# Altium footprint library Resistors_GP.PcbLib: 194 footprints (part 10 of 13)
Each footprint in its own frame and in the unit in brackets; x right, y up, seen from the top. Pads: shape width x height; smd on the part's side, far side on the other; paste and mask are expansions set on the pad; w line width, h text height; cw(c..) or ccw(c..) is an arc to the next point about the centre after c.
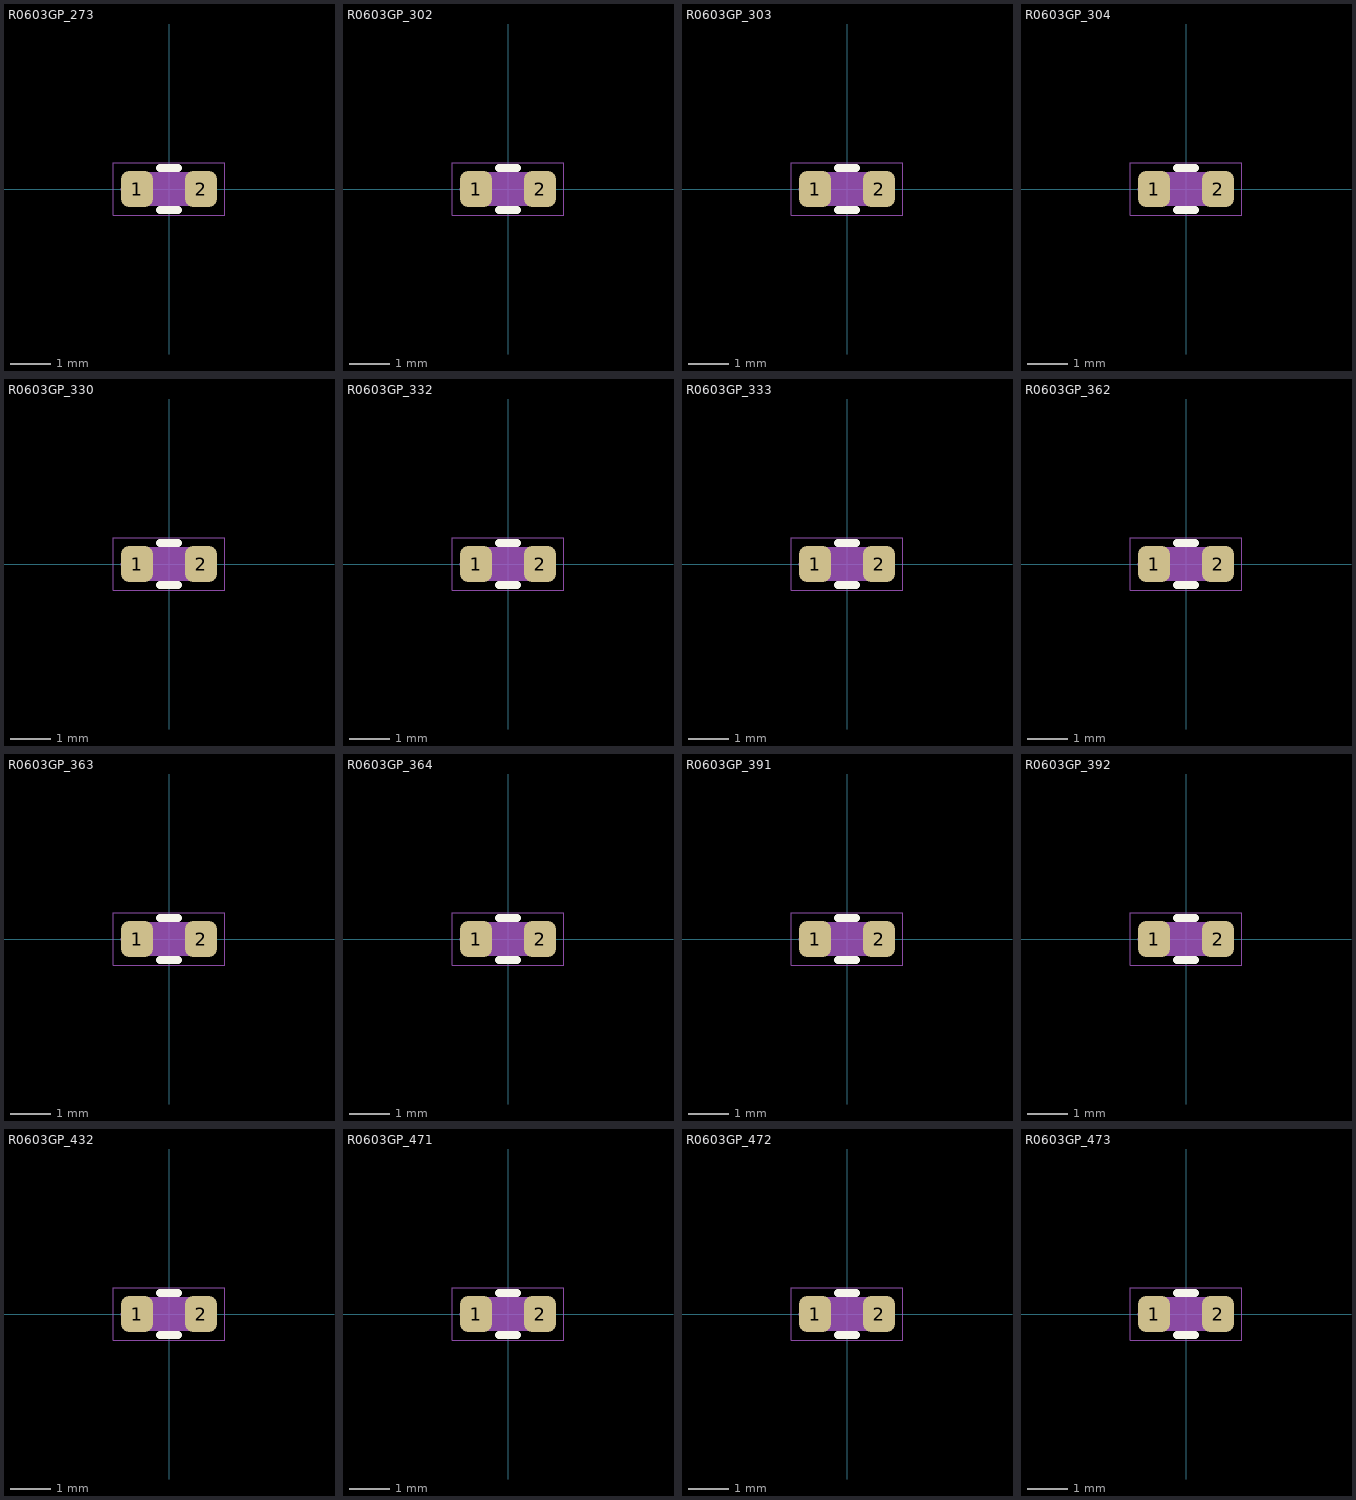
[diagram p9: the footprints below, top view; thin cyan lines are the x and y axes]

## R0603GP_273 [mm] "SMD060316X08MM"
height 0.45
pads (2):
  rrect50% 0.8x0.9 smd mask+0.05: 1(-0.8,0) 2(0.8,0)
Top Overlay:
  lines w0.2: -0.225,-0.525 0.225,-0.525 ; -0.225,0.525 0.225,0.525
Top Courtyard:
  lines w0.025: -1.4,-0.65 -1.4,0.65 1.4,0.65 1.4,-0.65 -1.4,-0.65
Top Assembly:
  lines w0.01: -1.19,-0.025 -1.19,0.025 ; 1.19,-0.025 1.19,0.025
  lines w0.05: -0.549,-0.395 0.549,-0.395 ; -0.549,0.395 0.549,0.395 ; -0.45,-0.395 -0.45,0.395 ; -0.4,-0.395 -0.4,0.395 ; -0.35,-0.395 -0.35,0.395 ; -0.3,-0.395 -0.3,0.395 ; -0.25,-0.395 -0.25,0.395 ; -0.2,-0.395 -0.2,0.395 ; -0.15,-0.395 -0.15,0.395 ; -0.1,-0.395 -0.1,0.395 ; -0.05,-0.395 -0.05,0.395 ; 0,-0.395 0,0.395 ; 0.05,-0.395 0.05,0.395 ; 0.1,-0.395 0.1,0.395 ; 0.15,-0.395 0.15,0.395 ; 0.2,-0.395 0.2,0.395 ; 0.25,-0.395 0.25,0.395 ; 0.3,-0.395 0.3,0.395 ; 0.35,-0.395 0.35,0.395 ; 0.4,-0.395 0.4,0.395 ; 0.45,-0.395 0.45,0.395 ; -0.55,-0.4 ccw(c-2.125,0) -0.55,0.4 ; -0.55,-0.4 -0.8,-0.4 -0.8,0.4 -0.55,0.4 ; -0.55,-0.4 -0.5,-0.4 -0.5,-0.395 -0.5,0.395 -0.5,0.4 -0.55,0.4 ; 0.55,-0.4 cw(c2.125,0) 0.55,0.4 ; 0.55,-0.4 0.8,-0.4 0.8,0.4 0.55,0.4 ; 0.55,-0.4 0.5,-0.4 0.5,-0.395 0.5,0.395 0.5,0.4 0.55,0.4
  text ".Designator" at -1.801,0.669 h0.8
3D body "R0603_BLACK_273.x_t": height 0.45, standoff 0, extent -0.8,-0.4 0.8,0.4

## R0603GP_302 [mm] "SMD060316X08MM"
height 0.45
pads (2):
  rrect50% 0.8x0.9 smd mask+0.05: 1(-0.8,0) 2(0.8,0)
Top Overlay:
  lines w0.2: -0.225,-0.525 0.225,-0.525 ; -0.225,0.525 0.225,0.525
Top Courtyard:
  lines w0.025: -1.4,-0.65 -1.4,0.65 1.4,0.65 1.4,-0.65 -1.4,-0.65
Top Assembly:
  lines w0.01: -1.19,-0.025 -1.19,0.025 ; 1.19,-0.025 1.19,0.025
  lines w0.05: -0.549,-0.395 0.549,-0.395 ; -0.549,0.395 0.549,0.395 ; -0.45,-0.395 -0.45,0.395 ; -0.4,-0.395 -0.4,0.395 ; -0.35,-0.395 -0.35,0.395 ; -0.3,-0.395 -0.3,0.395 ; -0.25,-0.395 -0.25,0.395 ; -0.2,-0.395 -0.2,0.395 ; -0.15,-0.395 -0.15,0.395 ; -0.1,-0.395 -0.1,0.395 ; -0.05,-0.395 -0.05,0.395 ; 0,-0.395 0,0.395 ; 0.05,-0.395 0.05,0.395 ; 0.1,-0.395 0.1,0.395 ; 0.15,-0.395 0.15,0.395 ; 0.2,-0.395 0.2,0.395 ; 0.25,-0.395 0.25,0.395 ; 0.3,-0.395 0.3,0.395 ; 0.35,-0.395 0.35,0.395 ; 0.4,-0.395 0.4,0.395 ; 0.45,-0.395 0.45,0.395 ; -0.55,-0.4 ccw(c-2.125,0) -0.55,0.4 ; -0.55,-0.4 -0.5,-0.4 -0.5,-0.395 -0.5,0.395 -0.5,0.4 -0.55,0.4 ; -0.55,-0.4 -0.8,-0.4 -0.8,0.4 -0.55,0.4 ; 0.55,-0.4 cw(c2.125,0) 0.55,0.4 ; 0.55,-0.4 0.5,-0.4 0.5,-0.395 0.5,0.395 0.5,0.4 0.55,0.4 ; 0.55,-0.4 0.8,-0.4 0.8,0.4 0.55,0.4
  text ".Designator" at -1.801,0.669 h0.8
3D body "R0603_BLACK_302.x_t": height 0.45, standoff 0, extent -0.8,-0.4 0.8,0.4

## R0603GP_303 [mm] "SMD060316X08MM"
height 0.45
pads (2):
  rrect50% 0.8x0.9 smd mask+0.05: 1(-0.8,0) 2(0.8,0)
Top Overlay:
  lines w0.2: -0.225,-0.525 0.225,-0.525 ; -0.225,0.525 0.225,0.525
Top Courtyard:
  lines w0.025: -1.4,-0.65 1.4,-0.65 1.4,0.65 -1.4,0.65 -1.4,-0.65
Top Assembly:
  lines w0.01: -1.19,-0.025 -1.19,0.025 ; 1.19,-0.025 1.19,0.025
  lines w0.05: -0.549,-0.395 0.549,-0.395 ; -0.549,0.395 0.549,0.395 ; -0.45,-0.395 -0.45,0.395 ; -0.4,-0.395 -0.4,0.395 ; -0.35,-0.395 -0.35,0.395 ; -0.3,-0.395 -0.3,0.395 ; -0.25,-0.395 -0.25,0.395 ; -0.2,-0.395 -0.2,0.395 ; -0.15,-0.395 -0.15,0.395 ; -0.1,-0.395 -0.1,0.395 ; -0.05,-0.395 -0.05,0.395 ; 0,-0.395 0,0.395 ; 0.05,-0.395 0.05,0.395 ; 0.1,-0.395 0.1,0.395 ; 0.15,-0.395 0.15,0.395 ; 0.2,-0.395 0.2,0.395 ; 0.25,-0.395 0.25,0.395 ; 0.3,-0.395 0.3,0.395 ; 0.35,-0.395 0.35,0.395 ; 0.4,-0.395 0.4,0.395 ; 0.45,-0.395 0.45,0.395 ; -0.55,-0.4 ccw(c-2.125,0) -0.55,0.4 ; -0.55,-0.4 -0.8,-0.4 -0.8,0.4 -0.55,0.4 ; -0.55,-0.4 -0.5,-0.4 -0.5,-0.395 -0.5,0.395 -0.5,0.4 -0.55,0.4 ; 0.55,-0.4 cw(c2.125,0) 0.55,0.4 ; 0.55,-0.4 0.8,-0.4 0.8,0.4 0.55,0.4 ; 0.55,-0.4 0.5,-0.4 0.5,-0.395 0.5,0.395 0.5,0.4 0.55,0.4
  text ".Designator" at -1.801,0.669 h0.8
3D body "R0603_BLACK_303.x_t": height 0.45, standoff 0, extent -0.8,-0.4 0.8,0.4

## R0603GP_304 [mm] "SMD060316X08MM"
height 0.45
pads (2):
  rrect50% 0.8x0.9 smd mask+0.05: 1(-0.8,0) 2(0.8,0)
Top Overlay:
  lines w0.2: -0.225,-0.525 0.225,-0.525 ; -0.225,0.525 0.225,0.525
Top Courtyard:
  lines w0.025: -1.4,-0.65 -1.4,0.65 1.4,0.65 1.4,-0.65 -1.4,-0.65
Top Assembly:
  lines w0.01: -1.19,-0.025 -1.19,0.025 ; 1.19,-0.025 1.19,0.025
  lines w0.05: -0.549,-0.395 0.549,-0.395 ; -0.549,0.395 0.549,0.395 ; -0.45,-0.395 -0.45,0.395 ; -0.4,-0.395 -0.4,0.395 ; -0.35,-0.395 -0.35,0.395 ; -0.3,-0.395 -0.3,0.395 ; -0.25,-0.395 -0.25,0.395 ; -0.2,-0.395 -0.2,0.395 ; -0.15,-0.395 -0.15,0.395 ; -0.1,-0.395 -0.1,0.395 ; -0.05,-0.395 -0.05,0.395 ; 0,-0.395 0,0.395 ; 0.05,-0.395 0.05,0.395 ; 0.1,-0.395 0.1,0.395 ; 0.15,-0.395 0.15,0.395 ; 0.2,-0.395 0.2,0.395 ; 0.25,-0.395 0.25,0.395 ; 0.3,-0.395 0.3,0.395 ; 0.35,-0.395 0.35,0.395 ; 0.4,-0.395 0.4,0.395 ; 0.45,-0.395 0.45,0.395 ; -0.55,-0.4 ccw(c-2.125,0) -0.55,0.4 ; -0.55,-0.4 -0.8,-0.4 -0.8,0.4 -0.55,0.4 ; -0.55,-0.4 -0.5,-0.4 -0.5,-0.395 -0.5,0.395 -0.5,0.4 -0.55,0.4 ; 0.55,-0.4 cw(c2.125,0) 0.55,0.4 ; 0.55,-0.4 0.8,-0.4 0.8,0.4 0.55,0.4 ; 0.55,-0.4 0.5,-0.4 0.5,-0.395 0.5,0.395 0.5,0.4 0.55,0.4
  text ".Designator" at -1.801,0.669 h0.8
3D body "R0603_BLACK_304.x_t": height 0.45, standoff 0, extent -0.8,-0.4 0.8,0.4

## R0603GP_330 [mm] "SMD060316X08MM"
height 0.45
pads (2):
  rrect50% 0.8x0.9 smd mask+0.05: 1(-0.8,0) 2(0.8,0)
Top Overlay:
  lines w0.2: -0.225,-0.525 0.225,-0.525 ; -0.225,0.525 0.225,0.525
Top Courtyard:
  lines w0.025: -1.4,-0.65 -1.4,0.65 1.4,0.65 1.4,-0.65 -1.4,-0.65
Top Assembly:
  lines w0.01: -1.19,-0.025 -1.19,0.025 ; 1.19,-0.025 1.19,0.025
  lines w0.05: -0.549,-0.395 0.549,-0.395 ; -0.549,0.395 0.549,0.395 ; -0.45,-0.395 -0.45,0.395 ; -0.4,-0.395 -0.4,0.395 ; -0.35,-0.395 -0.35,0.395 ; -0.3,-0.395 -0.3,0.395 ; -0.25,-0.395 -0.25,0.395 ; -0.2,-0.395 -0.2,0.395 ; -0.15,-0.395 -0.15,0.395 ; -0.1,-0.395 -0.1,0.395 ; -0.05,-0.395 -0.05,0.395 ; 0,-0.395 0,0.395 ; 0.05,-0.395 0.05,0.395 ; 0.1,-0.395 0.1,0.395 ; 0.15,-0.395 0.15,0.395 ; 0.2,-0.395 0.2,0.395 ; 0.25,-0.395 0.25,0.395 ; 0.3,-0.395 0.3,0.395 ; 0.35,-0.395 0.35,0.395 ; 0.4,-0.395 0.4,0.395 ; 0.45,-0.395 0.45,0.395 ; -0.55,-0.4 ccw(c-2.125,0) -0.55,0.4 ; -0.55,-0.4 -0.5,-0.4 -0.5,-0.395 -0.5,0.395 -0.5,0.4 -0.55,0.4 ; -0.55,-0.4 -0.8,-0.4 -0.8,0.4 -0.55,0.4 ; 0.55,-0.4 cw(c2.125,0) 0.55,0.4 ; 0.55,-0.4 0.5,-0.4 0.5,-0.395 0.5,0.395 0.5,0.4 0.55,0.4 ; 0.55,-0.4 0.8,-0.4 0.8,0.4 0.55,0.4
  text ".Designator" at -1.801,0.669 h0.8
3D body "R0603_BLACK_330.x_t": height 0.45, standoff 0, extent -0.8,-0.4 0.8,0.4

## R0603GP_332 [mm] "SMD060316X08MM"
height 0.45
pads (2):
  rrect50% 0.8x0.9 smd mask+0.05: 1(-0.8,0) 2(0.8,0)
Top Overlay:
  lines w0.2: -0.225,-0.525 0.225,-0.525 ; -0.225,0.525 0.225,0.525
Top Courtyard:
  lines w0.025: -1.4,-0.65 -1.4,0.65 1.4,0.65 1.4,-0.65 -1.4,-0.65
Top Assembly:
  lines w0.01: -1.19,-0.025 -1.19,0.025 ; 1.19,-0.025 1.19,0.025
  lines w0.05: -0.549,-0.395 0.549,-0.395 ; -0.549,0.395 0.549,0.395 ; -0.45,-0.395 -0.45,0.395 ; -0.4,-0.395 -0.4,0.395 ; -0.35,-0.395 -0.35,0.395 ; -0.3,-0.395 -0.3,0.395 ; -0.25,-0.395 -0.25,0.395 ; -0.2,-0.395 -0.2,0.395 ; -0.15,-0.395 -0.15,0.395 ; -0.1,-0.395 -0.1,0.395 ; -0.05,-0.395 -0.05,0.395 ; 0,-0.395 0,0.395 ; 0.05,-0.395 0.05,0.395 ; 0.1,-0.395 0.1,0.395 ; 0.15,-0.395 0.15,0.395 ; 0.2,-0.395 0.2,0.395 ; 0.25,-0.395 0.25,0.395 ; 0.3,-0.395 0.3,0.395 ; 0.35,-0.395 0.35,0.395 ; 0.4,-0.395 0.4,0.395 ; 0.45,-0.395 0.45,0.395 ; -0.55,-0.4 ccw(c-2.125,0) -0.55,0.4 ; -0.55,-0.4 -0.5,-0.4 -0.5,-0.395 -0.5,0.395 -0.5,0.4 -0.55,0.4 ; -0.55,-0.4 -0.8,-0.4 -0.8,0.4 -0.55,0.4 ; 0.55,-0.4 cw(c2.125,0) 0.55,0.4 ; 0.55,-0.4 0.5,-0.4 0.5,-0.395 0.5,0.395 0.5,0.4 0.55,0.4 ; 0.55,-0.4 0.8,-0.4 0.8,0.4 0.55,0.4
  text ".Designator" at -1.801,0.669 h0.8
3D body "R0603_BLACK_332.x_t": height 0.45, standoff 0, extent -0.8,-0.4 0.8,0.4

## R0603GP_333 [mm] "SMD060316X08MM"
height 0.45
pads (2):
  rrect50% 0.8x0.9 smd mask+0.05: 1(-0.8,0) 2(0.8,0)
Top Overlay:
  lines w0.2: -0.225,-0.525 0.225,-0.525 ; -0.225,0.525 0.225,0.525
Top Courtyard:
  lines w0.025: -1.4,-0.65 -1.4,0.65 1.4,0.65 1.4,-0.65 -1.4,-0.65
Top Assembly:
  lines w0.01: -1.19,-0.025 -1.19,0.025 ; 1.19,-0.025 1.19,0.025
  lines w0.05: -0.549,-0.395 0.549,-0.395 ; -0.549,0.395 0.549,0.395 ; -0.45,-0.395 -0.45,0.395 ; -0.4,-0.395 -0.4,0.395 ; -0.35,-0.395 -0.35,0.395 ; -0.3,-0.395 -0.3,0.395 ; -0.25,-0.395 -0.25,0.395 ; -0.2,-0.395 -0.2,0.395 ; -0.15,-0.395 -0.15,0.395 ; -0.1,-0.395 -0.1,0.395 ; -0.05,-0.395 -0.05,0.395 ; 0,-0.395 0,0.395 ; 0.05,-0.395 0.05,0.395 ; 0.1,-0.395 0.1,0.395 ; 0.15,-0.395 0.15,0.395 ; 0.2,-0.395 0.2,0.395 ; 0.25,-0.395 0.25,0.395 ; 0.3,-0.395 0.3,0.395 ; 0.35,-0.395 0.35,0.395 ; 0.4,-0.395 0.4,0.395 ; 0.45,-0.395 0.45,0.395 ; -0.55,-0.4 ccw(c-2.125,0) -0.55,0.4 ; -0.55,-0.4 -0.5,-0.4 -0.5,-0.395 -0.5,0.395 -0.5,0.4 -0.55,0.4 ; -0.55,-0.4 -0.8,-0.4 -0.8,0.4 -0.55,0.4 ; 0.55,-0.4 cw(c2.125,0) 0.55,0.4 ; 0.55,-0.4 0.5,-0.4 0.5,-0.395 0.5,0.395 0.5,0.4 0.55,0.4 ; 0.55,-0.4 0.8,-0.4 0.8,0.4 0.55,0.4
  text ".Designator" at -1.801,0.669 h0.8
3D body "R0603_BLACK_333.x_t": height 0.45, standoff 0, extent -0.8,-0.4 0.8,0.4

## R0603GP_362 [mm] "SMD060316X08MM"
height 0.45
pads (2):
  rrect50% 0.8x0.9 smd mask+0.05: 1(-0.8,0) 2(0.8,0)
Top Overlay:
  lines w0.2: -0.225,-0.525 0.225,-0.525 ; -0.225,0.525 0.225,0.525
Top Courtyard:
  lines w0.025: -1.4,-0.65 -1.4,0.65 1.4,0.65 1.4,-0.65 -1.4,-0.65
Top Assembly:
  lines w0.01: -1.19,-0.025 -1.19,0.025 ; 1.19,-0.025 1.19,0.025
  lines w0.05: -0.549,-0.395 0.549,-0.395 ; -0.549,0.395 0.549,0.395 ; -0.45,-0.395 -0.45,0.395 ; -0.4,-0.395 -0.4,0.395 ; -0.35,-0.395 -0.35,0.395 ; -0.3,-0.395 -0.3,0.395 ; -0.25,-0.395 -0.25,0.395 ; -0.2,-0.395 -0.2,0.395 ; -0.15,-0.395 -0.15,0.395 ; -0.1,-0.395 -0.1,0.395 ; -0.05,-0.395 -0.05,0.395 ; 0,-0.395 0,0.395 ; 0.05,-0.395 0.05,0.395 ; 0.1,-0.395 0.1,0.395 ; 0.15,-0.395 0.15,0.395 ; 0.2,-0.395 0.2,0.395 ; 0.25,-0.395 0.25,0.395 ; 0.3,-0.395 0.3,0.395 ; 0.35,-0.395 0.35,0.395 ; 0.4,-0.395 0.4,0.395 ; 0.45,-0.395 0.45,0.395 ; -0.55,-0.4 ccw(c-2.125,0) -0.55,0.4 ; -0.55,-0.4 -0.5,-0.4 -0.5,-0.395 -0.5,0.395 -0.5,0.4 -0.55,0.4 ; -0.55,-0.4 -0.8,-0.4 -0.8,0.4 -0.55,0.4 ; 0.55,-0.4 cw(c2.125,0) 0.55,0.4 ; 0.55,-0.4 0.5,-0.4 0.5,-0.395 0.5,0.395 0.5,0.4 0.55,0.4 ; 0.55,-0.4 0.8,-0.4 0.8,0.4 0.55,0.4
  text ".Designator" at -1.801,0.669 h0.8
3D body "R0603_BLACK_362.x_t": height 0.45, standoff 0, extent -0.8,-0.4 0.8,0.4

## R0603GP_363 [mm] "SMD060316X08MM"
height 0.45
pads (2):
  rrect50% 0.8x0.9 smd mask+0.05: 1(-0.8,0) 2(0.8,0)
Top Overlay:
  lines w0.2: -0.225,-0.525 0.225,-0.525 ; -0.225,0.525 0.225,0.525
Top Courtyard:
  lines w0.025: -1.4,-0.65 1.4,-0.65 1.4,0.65 -1.4,0.65 -1.4,-0.65
Top Assembly:
  lines w0.01: -1.19,-0.025 -1.19,0.025 ; 1.19,-0.025 1.19,0.025
  lines w0.05: -0.549,-0.395 0.549,-0.395 ; -0.549,0.395 0.549,0.395 ; -0.45,-0.395 -0.45,0.395 ; -0.4,-0.395 -0.4,0.395 ; -0.35,-0.395 -0.35,0.395 ; -0.3,-0.395 -0.3,0.395 ; -0.25,-0.395 -0.25,0.395 ; -0.2,-0.395 -0.2,0.395 ; -0.15,-0.395 -0.15,0.395 ; -0.1,-0.395 -0.1,0.395 ; -0.05,-0.395 -0.05,0.395 ; 0,-0.395 0,0.395 ; 0.05,-0.395 0.05,0.395 ; 0.1,-0.395 0.1,0.395 ; 0.15,-0.395 0.15,0.395 ; 0.2,-0.395 0.2,0.395 ; 0.25,-0.395 0.25,0.395 ; 0.3,-0.395 0.3,0.395 ; 0.35,-0.395 0.35,0.395 ; 0.4,-0.395 0.4,0.395 ; 0.45,-0.395 0.45,0.395 ; -0.55,-0.4 ccw(c-2.125,0) -0.55,0.4 ; -0.55,-0.4 -0.8,-0.4 -0.8,0.4 -0.55,0.4 ; -0.55,-0.4 -0.5,-0.4 -0.5,-0.395 -0.5,0.395 -0.5,0.4 -0.55,0.4 ; 0.55,-0.4 cw(c2.125,0) 0.55,0.4 ; 0.55,-0.4 0.8,-0.4 0.8,0.4 0.55,0.4 ; 0.55,-0.4 0.5,-0.4 0.5,-0.395 0.5,0.395 0.5,0.4 0.55,0.4
  text ".Designator" at -1.801,0.669 h0.8
3D body "R0603_BLACK_363.x_t": height 0.45, standoff 0, extent -0.8,-0.4 0.8,0.4

## R0603GP_364 [mm] "SMD060316X08MM"
height 0.45
pads (2):
  rrect50% 0.8x0.9 smd mask+0.05: 1(-0.8,0) 2(0.8,0)
Top Overlay:
  lines w0.2: -0.225,-0.525 0.225,-0.525 ; -0.225,0.525 0.225,0.525
Top Courtyard:
  lines w0.025: -1.4,-0.65 -1.4,0.65 1.4,0.65 1.4,-0.65 -1.4,-0.65
Top Assembly:
  lines w0.01: -1.19,-0.025 -1.19,0.025 ; 1.19,-0.025 1.19,0.025
  lines w0.05: -0.549,-0.395 0.549,-0.395 ; -0.549,0.395 0.549,0.395 ; -0.45,-0.395 -0.45,0.395 ; -0.4,-0.395 -0.4,0.395 ; -0.35,-0.395 -0.35,0.395 ; -0.3,-0.395 -0.3,0.395 ; -0.25,-0.395 -0.25,0.395 ; -0.2,-0.395 -0.2,0.395 ; -0.15,-0.395 -0.15,0.395 ; -0.1,-0.395 -0.1,0.395 ; -0.05,-0.395 -0.05,0.395 ; 0,-0.395 0,0.395 ; 0.05,-0.395 0.05,0.395 ; 0.1,-0.395 0.1,0.395 ; 0.15,-0.395 0.15,0.395 ; 0.2,-0.395 0.2,0.395 ; 0.25,-0.395 0.25,0.395 ; 0.3,-0.395 0.3,0.395 ; 0.35,-0.395 0.35,0.395 ; 0.4,-0.395 0.4,0.395 ; 0.45,-0.395 0.45,0.395 ; -0.55,-0.4 ccw(c-2.125,0) -0.55,0.4 ; -0.55,-0.4 -0.5,-0.4 -0.5,-0.395 -0.5,0.395 -0.5,0.4 -0.55,0.4 ; -0.55,-0.4 -0.8,-0.4 -0.8,0.4 -0.55,0.4 ; 0.55,-0.4 cw(c2.125,0) 0.55,0.4 ; 0.55,-0.4 0.5,-0.4 0.5,-0.395 0.5,0.395 0.5,0.4 0.55,0.4 ; 0.55,-0.4 0.8,-0.4 0.8,0.4 0.55,0.4
  text ".Designator" at -1.801,0.669 h0.8
3D body "R0603_BLACK_364.x_t": height 0.45, standoff 0, extent -0.8,-0.4 0.8,0.4

## R0603GP_391 [mm] "SMD060316X08MM"
height 0.45
pads (2):
  rrect50% 0.8x0.9 smd mask+0.05: 1(-0.8,0) 2(0.8,0)
Top Overlay:
  lines w0.2: -0.225,-0.525 0.225,-0.525 ; -0.225,0.525 0.225,0.525
Top Courtyard:
  lines w0.025: -1.4,-0.65 -1.4,0.65 1.4,0.65 1.4,-0.65 -1.4,-0.65
Top Assembly:
  lines w0.01: -1.19,-0.025 -1.19,0.025 ; 1.19,-0.025 1.19,0.025
  lines w0.05: -0.549,-0.395 0.549,-0.395 ; -0.549,0.395 0.549,0.395 ; -0.45,-0.395 -0.45,0.395 ; -0.4,-0.395 -0.4,0.395 ; -0.35,-0.395 -0.35,0.395 ; -0.3,-0.395 -0.3,0.395 ; -0.25,-0.395 -0.25,0.395 ; -0.2,-0.395 -0.2,0.395 ; -0.15,-0.395 -0.15,0.395 ; -0.1,-0.395 -0.1,0.395 ; -0.05,-0.395 -0.05,0.395 ; 0,-0.395 0,0.395 ; 0.05,-0.395 0.05,0.395 ; 0.1,-0.395 0.1,0.395 ; 0.15,-0.395 0.15,0.395 ; 0.2,-0.395 0.2,0.395 ; 0.25,-0.395 0.25,0.395 ; 0.3,-0.395 0.3,0.395 ; 0.35,-0.395 0.35,0.395 ; 0.4,-0.395 0.4,0.395 ; 0.45,-0.395 0.45,0.395 ; -0.55,-0.4 ccw(c-2.125,0) -0.55,0.4 ; -0.55,-0.4 -0.5,-0.4 -0.5,-0.395 -0.5,0.395 -0.5,0.4 -0.55,0.4 ; -0.55,-0.4 -0.8,-0.4 -0.8,0.4 -0.55,0.4 ; 0.55,-0.4 cw(c2.125,0) 0.55,0.4 ; 0.55,-0.4 0.5,-0.4 0.5,-0.395 0.5,0.395 0.5,0.4 0.55,0.4 ; 0.55,-0.4 0.8,-0.4 0.8,0.4 0.55,0.4
  text ".Designator" at -1.801,0.669 h0.8
3D body "R0603_BLACK_391.x_t": height 0.45, standoff 0, extent -0.8,-0.4 0.8,0.4

## R0603GP_392 [mm] "SMD060316X08MM"
height 0.45
pads (2):
  rrect50% 0.8x0.9 smd mask+0.05: 1(-0.8,0) 2(0.8,0)
Top Overlay:
  lines w0.2: -0.225,-0.525 0.225,-0.525 ; -0.225,0.525 0.225,0.525
Top Courtyard:
  lines w0.025: -1.4,-0.65 -1.4,0.65 1.4,0.65 1.4,-0.65 -1.4,-0.65
Top Assembly:
  lines w0.01: -1.19,-0.025 -1.19,0.025 ; 1.19,-0.025 1.19,0.025
  lines w0.05: -0.549,-0.395 0.549,-0.395 ; -0.549,0.395 0.549,0.395 ; -0.45,-0.395 -0.45,0.395 ; -0.4,-0.395 -0.4,0.395 ; -0.35,-0.395 -0.35,0.395 ; -0.3,-0.395 -0.3,0.395 ; -0.25,-0.395 -0.25,0.395 ; -0.2,-0.395 -0.2,0.395 ; -0.15,-0.395 -0.15,0.395 ; -0.1,-0.395 -0.1,0.395 ; -0.05,-0.395 -0.05,0.395 ; 0,-0.395 0,0.395 ; 0.05,-0.395 0.05,0.395 ; 0.1,-0.395 0.1,0.395 ; 0.15,-0.395 0.15,0.395 ; 0.2,-0.395 0.2,0.395 ; 0.25,-0.395 0.25,0.395 ; 0.3,-0.395 0.3,0.395 ; 0.35,-0.395 0.35,0.395 ; 0.4,-0.395 0.4,0.395 ; 0.45,-0.395 0.45,0.395 ; -0.55,-0.4 ccw(c-2.125,0) -0.55,0.4 ; -0.55,-0.4 -0.8,-0.4 -0.8,0.4 -0.55,0.4 ; -0.55,-0.4 -0.5,-0.4 -0.5,-0.395 -0.5,0.395 -0.5,0.4 -0.55,0.4 ; 0.55,-0.4 cw(c2.125,0) 0.55,0.4 ; 0.55,-0.4 0.8,-0.4 0.8,0.4 0.55,0.4 ; 0.55,-0.4 0.5,-0.4 0.5,-0.395 0.5,0.395 0.5,0.4 0.55,0.4
  text ".Designator" at -1.801,0.669 h0.8
3D body "R0603_BLACK_392.x_t": height 0.45, standoff 0, extent -0.8,-0.4 0.8,0.4

## R0603GP_432 [mm] "SMD060316X08MM"
height 0.45
pads (2):
  rrect50% 0.8x0.9 smd mask+0.05: 1(-0.8,0) 2(0.8,0)
Top Overlay:
  lines w0.2: -0.225,-0.525 0.225,-0.525 ; -0.225,0.525 0.225,0.525
Top Courtyard:
  lines w0.025: -1.4,-0.65 -1.4,0.65 1.4,0.65 1.4,-0.65 -1.4,-0.65
Top Assembly:
  lines w0.01: -1.19,-0.025 -1.19,0.025 ; 1.19,-0.025 1.19,0.025
  lines w0.05: -0.549,-0.395 0.549,-0.395 ; -0.549,0.395 0.549,0.395 ; -0.45,-0.395 -0.45,0.395 ; -0.4,-0.395 -0.4,0.395 ; -0.35,-0.395 -0.35,0.395 ; -0.3,-0.395 -0.3,0.395 ; -0.25,-0.395 -0.25,0.395 ; -0.2,-0.395 -0.2,0.395 ; -0.15,-0.395 -0.15,0.395 ; -0.1,-0.395 -0.1,0.395 ; -0.05,-0.395 -0.05,0.395 ; 0,-0.395 0,0.395 ; 0.05,-0.395 0.05,0.395 ; 0.1,-0.395 0.1,0.395 ; 0.15,-0.395 0.15,0.395 ; 0.2,-0.395 0.2,0.395 ; 0.25,-0.395 0.25,0.395 ; 0.3,-0.395 0.3,0.395 ; 0.35,-0.395 0.35,0.395 ; 0.4,-0.395 0.4,0.395 ; 0.45,-0.395 0.45,0.395 ; -0.55,-0.4 ccw(c-2.125,0) -0.55,0.4 ; -0.55,-0.4 -0.5,-0.4 -0.5,-0.395 -0.5,0.395 -0.5,0.4 -0.55,0.4 ; -0.55,-0.4 -0.8,-0.4 -0.8,0.4 -0.55,0.4 ; 0.55,-0.4 cw(c2.125,0) 0.55,0.4 ; 0.55,-0.4 0.5,-0.4 0.5,-0.395 0.5,0.395 0.5,0.4 0.55,0.4 ; 0.55,-0.4 0.8,-0.4 0.8,0.4 0.55,0.4
  text ".Designator" at -1.801,0.669 h0.8
3D body "R0603_BLACK_432.x_t": height 0.45, standoff 0, extent -0.8,-0.4 0.8,0.4

## R0603GP_471 [mm] "SMD060316X08MM"
height 0.45
pads (2):
  rrect50% 0.8x0.9 smd mask+0.05: 1(-0.8,0) 2(0.8,0)
Top Overlay:
  lines w0.2: -0.225,-0.525 0.225,-0.525 ; -0.225,0.525 0.225,0.525
Top Courtyard:
  lines w0.025: -1.4,-0.65 -1.4,0.65 1.4,0.65 1.4,-0.65 -1.4,-0.65
Top Assembly:
  lines w0.01: -1.19,-0.025 -1.19,0.025 ; 1.19,-0.025 1.19,0.025
  lines w0.05: -0.549,-0.395 0.549,-0.395 ; -0.549,0.395 0.549,0.395 ; -0.45,-0.395 -0.45,0.395 ; -0.4,-0.395 -0.4,0.395 ; -0.35,-0.395 -0.35,0.395 ; -0.3,-0.395 -0.3,0.395 ; -0.25,-0.395 -0.25,0.395 ; -0.2,-0.395 -0.2,0.395 ; -0.15,-0.395 -0.15,0.395 ; -0.1,-0.395 -0.1,0.395 ; -0.05,-0.395 -0.05,0.395 ; 0,-0.395 0,0.395 ; 0.05,-0.395 0.05,0.395 ; 0.1,-0.395 0.1,0.395 ; 0.15,-0.395 0.15,0.395 ; 0.2,-0.395 0.2,0.395 ; 0.25,-0.395 0.25,0.395 ; 0.3,-0.395 0.3,0.395 ; 0.35,-0.395 0.35,0.395 ; 0.4,-0.395 0.4,0.395 ; 0.45,-0.395 0.45,0.395 ; -0.55,-0.4 ccw(c-2.125,0) -0.55,0.4 ; -0.55,-0.4 -0.8,-0.4 -0.8,0.4 -0.55,0.4 ; -0.55,-0.4 -0.5,-0.4 -0.5,-0.395 -0.5,0.395 -0.5,0.4 -0.55,0.4 ; 0.55,-0.4 cw(c2.125,0) 0.55,0.4 ; 0.55,-0.4 0.8,-0.4 0.8,0.4 0.55,0.4 ; 0.55,-0.4 0.5,-0.4 0.5,-0.395 0.5,0.395 0.5,0.4 0.55,0.4
  text ".Designator" at -1.801,0.669 h0.8
3D body "R0603_BLACK_471.x_t": height 0.45, standoff 0, extent -0.8,-0.4 0.8,0.4

## R0603GP_472 [mm] "SMD060316X08MM"
height 0.45
pads (2):
  rrect50% 0.8x0.9 smd mask+0.05: 1(-0.8,0) 2(0.8,0)
Top Overlay:
  lines w0.2: -0.225,-0.525 0.225,-0.525 ; -0.225,0.525 0.225,0.525
Top Courtyard:
  lines w0.025: -1.4,-0.65 -1.4,0.65 1.4,0.65 1.4,-0.65 -1.4,-0.65
Top Assembly:
  lines w0.01: -1.19,-0.025 -1.19,0.025 ; 1.19,-0.025 1.19,0.025
  lines w0.05: -0.549,-0.395 0.549,-0.395 ; -0.549,0.395 0.549,0.395 ; -0.45,-0.395 -0.45,0.395 ; -0.4,-0.395 -0.4,0.395 ; -0.35,-0.395 -0.35,0.395 ; -0.3,-0.395 -0.3,0.395 ; -0.25,-0.395 -0.25,0.395 ; -0.2,-0.395 -0.2,0.395 ; -0.15,-0.395 -0.15,0.395 ; -0.1,-0.395 -0.1,0.395 ; -0.05,-0.395 -0.05,0.395 ; 0,-0.395 0,0.395 ; 0.05,-0.395 0.05,0.395 ; 0.1,-0.395 0.1,0.395 ; 0.15,-0.395 0.15,0.395 ; 0.2,-0.395 0.2,0.395 ; 0.25,-0.395 0.25,0.395 ; 0.3,-0.395 0.3,0.395 ; 0.35,-0.395 0.35,0.395 ; 0.4,-0.395 0.4,0.395 ; 0.45,-0.395 0.45,0.395 ; -0.55,-0.4 ccw(c-2.125,0) -0.55,0.4 ; -0.55,-0.4 -0.8,-0.4 -0.8,0.4 -0.55,0.4 ; -0.55,-0.4 -0.5,-0.4 -0.5,-0.395 -0.5,0.395 -0.5,0.4 -0.55,0.4 ; 0.55,-0.4 cw(c2.125,0) 0.55,0.4 ; 0.55,-0.4 0.8,-0.4 0.8,0.4 0.55,0.4 ; 0.55,-0.4 0.5,-0.4 0.5,-0.395 0.5,0.395 0.5,0.4 0.55,0.4
  text ".Designator" at -1.801,0.669 h0.8
3D body "R0603_BLACK_472.x_t": height 0.45, standoff 0, extent -0.8,-0.4 0.8,0.4

## R0603GP_473 [mm] "SMD060316X08MM"
height 0.45
pads (2):
  rrect50% 0.8x0.9 smd mask+0.05: 1(-0.8,0) 2(0.8,0)
Top Overlay:
  lines w0.2: -0.225,-0.525 0.225,-0.525 ; -0.225,0.525 0.225,0.525
Top Courtyard:
  lines w0.025: -1.4,-0.65 -1.4,0.65 1.4,0.65 1.4,-0.65 -1.4,-0.65
Top Assembly:
  lines w0.01: -1.19,-0.025 -1.19,0.025 ; 1.19,-0.025 1.19,0.025
  lines w0.05: -0.549,-0.395 0.549,-0.395 ; -0.549,0.395 0.549,0.395 ; -0.45,-0.395 -0.45,0.395 ; -0.4,-0.395 -0.4,0.395 ; -0.35,-0.395 -0.35,0.395 ; -0.3,-0.395 -0.3,0.395 ; -0.25,-0.395 -0.25,0.395 ; -0.2,-0.395 -0.2,0.395 ; -0.15,-0.395 -0.15,0.395 ; -0.1,-0.395 -0.1,0.395 ; -0.05,-0.395 -0.05,0.395 ; 0,-0.395 0,0.395 ; 0.05,-0.395 0.05,0.395 ; 0.1,-0.395 0.1,0.395 ; 0.15,-0.395 0.15,0.395 ; 0.2,-0.395 0.2,0.395 ; 0.25,-0.395 0.25,0.395 ; 0.3,-0.395 0.3,0.395 ; 0.35,-0.395 0.35,0.395 ; 0.4,-0.395 0.4,0.395 ; 0.45,-0.395 0.45,0.395 ; -0.55,-0.4 ccw(c-2.125,0) -0.55,0.4 ; -0.55,-0.4 -0.8,-0.4 -0.8,0.4 -0.55,0.4 ; -0.55,-0.4 -0.5,-0.4 -0.5,-0.395 -0.5,0.395 -0.5,0.4 -0.55,0.4 ; 0.55,-0.4 cw(c2.125,0) 0.55,0.4 ; 0.55,-0.4 0.8,-0.4 0.8,0.4 0.55,0.4 ; 0.55,-0.4 0.5,-0.4 0.5,-0.395 0.5,0.395 0.5,0.4 0.55,0.4
  text ".Designator" at -1.801,0.669 h0.8
3D body "R0603_BLACK_473.x_t": height 0.45, standoff 0, extent -0.8,-0.4 0.8,0.4